# Altium footprint library PCB_control_unit.PcbLib: 25 footprints (part 1 of 2)
Each footprint in its own frame and in the unit in brackets; x right, y up, seen from the top. Pads: shape width x height; smd on the part's side, far side on the other; paste and mask are expansions set on the pad; w line width, h text height; cw(c..) or ccw(c..) is an arc to the next point about the centre after c.
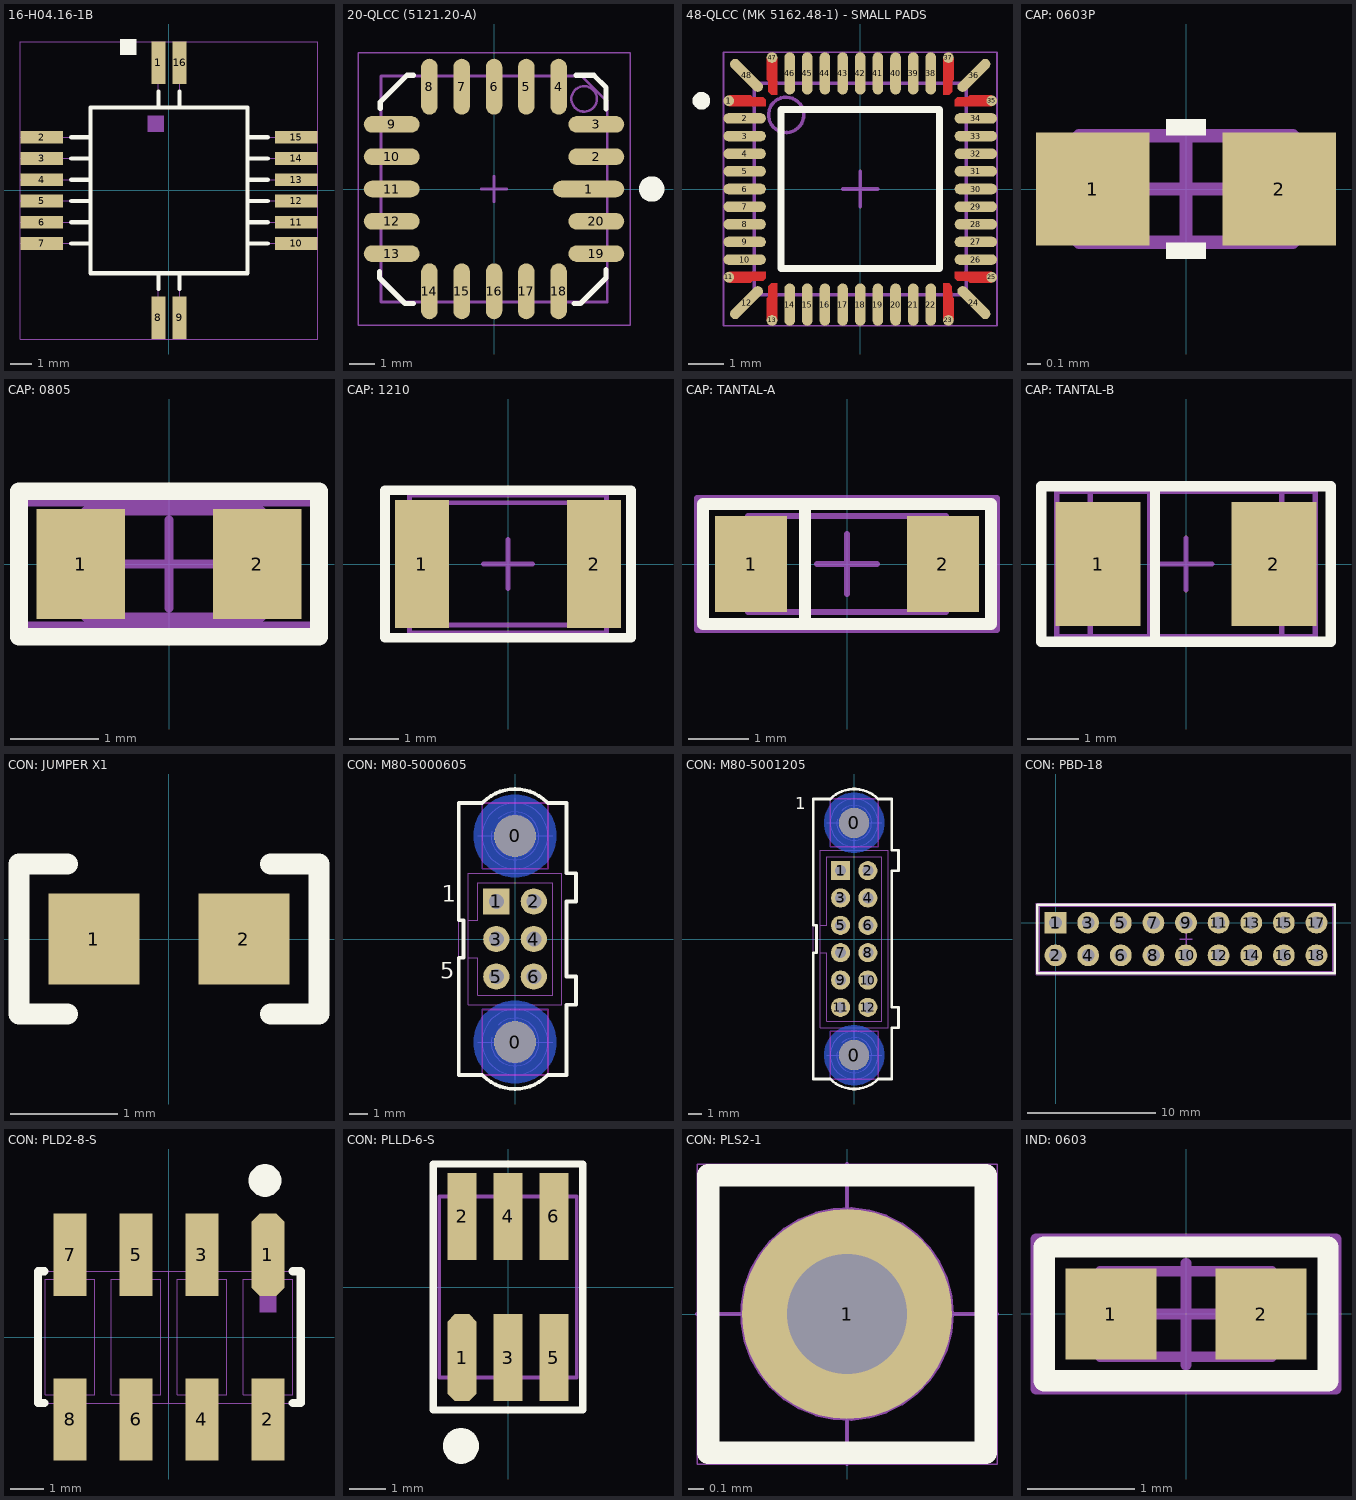
[diagram p0: the footprints below, top view; thin cyan lines are the x and y axes]

## 16-Н04.16-1B [mm] "USSR"
height 3
pads (16):
  rect 0.65x2 smd: 1(-0.5,6) 8(-0.5,-6) 9(0.5,-6) 16(0.5,6)
  rect 2x0.6 smd: 2(-6,2.5) 3(-6,1.5) 4(-6,0.5) 5(-6,-0.5) 6(-6,-1.5) 7(-6,-2.5) 10(6,-2.5) 11(6,-1.5) 12(6,-0.5) 13(6,0.5) 14(6,1.5) 15(6,2.5)
Top Overlay:
  region: -2.3,6.375 -1.55,6.375 -1.55,7.125 -2.3,7.125
  lines w0.2: -4.6,-2.5 -3.7,-2.5 ; -4.6,-1.5 -3.7,-1.5 ; -4.6,-0.5 -3.7,-0.5 ; -4.6,0.5 -3.7,0.5 ; -4.6,1.5 -3.7,1.5 ; -4.6,2.5 -3.7,2.5 ; -0.5,-4.65 -0.5,-3.9 ; -0.5,3.9 -0.5,4.65 ; 0.5,-4.65 0.5,-3.9 ; 0.5,3.9 0.5,4.65 ; 3.7,-2.5 4.65,-2.5 ; 3.7,-1.5 4.65,-1.5 ; 3.7,-0.5 4.65,-0.5 ; 3.7,0.5 4.65,0.5 ; 3.7,1.5 4.65,1.5 ; 3.7,2.5 4.65,2.5 ; -3.7,-3.9 3.7,-3.9 3.7,3.9 -3.7,3.9 -3.7,-3.9
Top Assy:
  region: -1,2.75 -0.25,2.75 -0.25,3.5 -1,3.5
  lines w0.025: -7,-2.5 -3.7,-2.5 ; -7,-1.5 -3.7,-1.5 ; -7,-0.5 -3.7,-0.5 ; -7,0.5 -3.7,0.5 ; -7,1.5 -3.7,1.5 ; -7,2.5 -3.7,2.5 ; -0.5,-7 -0.5,-3.9 ; -0.5,3.9 -0.5,7 ; 0.5,-7 0.5,-3.9 ; 0.5,3.9 0.5,7 ; 3.7,-2.5 7,-2.5 ; 3.7,-1.5 7,-1.5 ; 3.7,-0.5 7,-0.5 ; 3.7,0.5 7,0.5 ; 3.7,1.5 7,1.5 ; 3.7,2.5 7,2.5 ; -3.7,-3.9 3.7,-3.9 3.7,3.9 -3.7,3.9 -3.7,-3.9
Mechanical 15:
  lines w0.01: -7,-7 7,-7 7,7 -7,7 -7,-7
3D body "Н04.16-1В.STEP": height 2.92, standoff 0, extent -7.84,-8 7.84,8

## 20-QLCC (5121.20-A) [mm] "LCC, 20-Pins, Body 8,89x8,89mmx2,55mm, Pitch 1,27mm, IPC Medium Density"
height 2.55
pads (20):
  oval 2.8x0.65 smd: 1(3.725,0)
  oval 2.2x0.65 smd: 2(4.025,1.27) 3(4.025,2.54) 9(-4.025,2.54) 10(-4.025,1.27) 11(-4.025,0) 12(-4.025,-1.27) 13(-4.025,-2.54) 19(4.025,-2.54) 20(4.025,-1.27)
  oval 0.65x2.2 smd: 4(2.54,4.025) 5(1.27,4.025) 6(0,4.025) 7(-1.27,4.025) 8(-2.54,4.025) 14(-2.54,-4.025) 15(-1.27,-4.025) 16(0,-4.025) 17(1.27,-4.025) 18(2.54,-4.025)
Top Overlay:
  circle w0.5: c6.2,0 r0.25
  lines w0.2: -4.5,-3.25 -4.5,-3.5 -3.5,-4.5 -3.175,-4.5 ; -4.475,3.175 -4.475,3.425 -3.425,4.475 -3.175,4.475 ; 3.15,-4.5 3.4,-4.5 4.4,-3.5 4.4,-3.175 ; 3.225,4.475 3.925,4.475 4.4,4 4.4,3.15
Mechanical 13:
  circle w0.1: c3.545,3.545 r0.5
  lines w0.1: -4.445,-4.445 4.445,-4.445 4.445,3.445 3.445,4.445 -4.445,4.445 -4.445,-4.445
Mechanical 15:
  lines w0.05: -5.35,-5.35 -5.35,5.35 5.35,5.35 5.35,-5.35 -5.35,-5.35
  lines w0.1: -0.5,0 0.5,0 ; 0,-0.5 0,0.5
3D body "3_korpus_5121_20-a.stp": height 2.12, standoff 0, extent -4.445,-4.445 4.445,4.445

## 48-QLCC (МК 5162.48-1) - SMALL PADS [mm] "QFN-cl-h-48-0.5-002 Тихонов Е.Н., clearance 0.15"
pads (48):
  round 0.3 smd mask+0.05: 1(-3.725,2.5) 11(-3.725,-2.5) 13(-2.5,-3.725) 23(2.5,-3.725) 25(3.725,-2.5) 35(3.725,2.5) 37(2.5,3.725) 47(-2.5,3.725)
  oval 1.2x0.3 smd mask+0.05: 2(-3.275,2) 3(-3.275,1.5) 4(-3.275,1) 5(-3.275,0.5) 6(-3.275,0) 7(-3.275,-0.5) 8(-3.275,-1) 9(-3.275,-1.5) 10(-3.275,-2) 26(3.275,-2) 27(3.275,-1.5) 28(3.275,-1) 29(3.275,-0.5) 30(3.275,0) 31(3.275,0.5) 32(3.275,1) 33(3.275,1.5) 34(3.275,2)
  oval 0.3x1.2 smd rot 135 mask+0.05: 12(-3.22,-3.22) 36(3.22,3.22)
  oval 0.3x1.2 smd mask+0.05: 14(-2,-3.275) 15(-1.5,-3.275) 16(-1,-3.275) 17(-0.5,-3.275) 18(0,-3.275) 19(0.5,-3.275) 20(1,-3.275) 21(1.5,-3.275) 22(2,-3.275) 38(2,3.275) 39(1.5,3.275) 40(1,3.275) 41(0.5,3.275) 42(0,3.275) 43(-0.5,3.275) 44(-1,3.275) 45(-1.5,3.275) 46(-2,3.275)
  oval 0.3x1.2 smd rot 45 mask+0.05: 24(3.22,-3.22) 48(-3.22,3.22)
Top Layer:
  region: -2.675,-2.526 -2.675,-2.35 -3.725,-2.35 -3.725,-2.65 -3.1,-2.65 -3.05,-2.6 -2.75,-2.6
  region: -2.526,-2.675 -2.35,-2.675 -2.35,-3.725 -2.65,-3.725 -2.65,-3.1 -2.6,-3.05 -2.6,-2.75
  region: 2.675,-2.526 2.675,-2.35 3.725,-2.35 3.725,-2.65 3.1,-2.65 3.05,-2.6 2.75,-2.6
  region: 2.526,-2.675 2.35,-2.675 2.35,-3.725 2.65,-3.725 2.65,-3.1 2.6,-3.05 2.6,-2.75
  region: 2.526,2.675 2.35,2.675 2.35,3.725 2.65,3.725 2.65,3.1 2.6,3.05 2.6,2.75
  region: 2.675,2.526 2.675,2.35 3.725,2.35 3.725,2.65 3.1,2.65 3.05,2.6 2.75,2.6
  region: -2.675,2.526 -2.675,2.35 -3.725,2.35 -3.725,2.65 -3.1,2.65 -3.05,2.6 -2.75,2.6
  region: -2.526,2.675 -2.35,2.675 -2.35,3.725 -2.65,3.725 -2.65,3.1 -2.6,3.05 -2.6,2.75
Top Overlay:
  circle w0.25: c-4.5,2.5 r0.125
  lines w0.2: -2.25,-2.25 -2.25,2.25 2.25,2.25 2.25,-2.25 -2.25,-2.25
Mechanical 13:
  circle w0.1: c-2.1,2.1 r0.5
  lines w0.1: -3,-3 3,-3 3,3 -2.95,3 -3,2.95 -3,-3
Mechanical 15:
  lines w0.05: -3.875,-3.875 3.875,-3.875 3.875,3.875 -3.875,3.875 -3.875,-3.875
  lines w0.1: -0.5,0 0.5,0 ; 0,-0.5 0,0.5
3D body "5162.48-1 Корпус.stp": height 1.61, standoff -0.01, extent -3,-3 3,3

## CAP: 0603P [mm] "small var"
height 0.45
pads (2):
  rect 0.85x0.85 smd: 1(-0.7,0) 2(0.7,0)
Top Overlay:
  rectangle: -0.15,0.4 0.15,0.525
  rectangle: -0.15,-0.525 0.15,-0.4
Top Assy:
  lines w0.1: -0.8,-0.4 0.8,-0.4 0.8,0.4 -0.8,0.4 -0.8,-0.4
Mechanical 15:
  lines w0.1: -0.475,0 0.475,0 ; 0,-0.475 0,0.475
3D body "SW3dPS-0603 SMD Capacitor.STEP": height 0.3, standoff 0, extent -0.8,-0.4 0.8,0.4

## CAP: 0805 [mm]
height 0.45
pads (2):
  rect 1x1.25 smd: 1(-1,0) 2(1,0)
Top Overlay:
  lines w0.2: -1.7,-0.825 1.7,-0.825 1.7,0.825 -1.7,0.825 -1.7,-0.825
Top Assy:
  lines w0.1: -0.949,-0.6 1.05,-0.6 1.05,0.6 -0.949,0.6 -0.949,-0.6
Mechanical 15:
  lines w0.1: -0.5,0 0.5,0 ; 0,-0.5 0,0.5 ; -1.7,-0.7 -1.7,0.7 1.7,0.7 1.7,-0.7 -1.7,-0.7
3D body "SW3dPS-0805 SMD Capacitor.STEP": height 0.78, standoff 0, extent -1,-0.625 1,0.625

## CAP: 1210 [mm]
height 2.5
pads (2):
  rect 1.1x2.6 smd: 1(-1.75,0) 2(1.75,0)
Top Overlay:
  lines w0.2: -2.5,-1.5 -2.5,1.5 2.5,1.5 2.5,-1.5 -2.5,-1.5
Top Assy:
  lines w0.1: -2,-1.244 2,-1.244 2,1.245 -2,1.245 -2,-1.244
Mechanical 15:
  lines w0.1: -0.5,0 0.5,0 ; 0,-0.5 0,0.5 ; -2,-1.4 -2,1.4 2,1.4 2,-1.4 -2,-1.4
3D body "User Library-1210(3225M) Cap.STEP": height 1.7, standoff 0, extent -2,-1.244 2,1.245

## CAP: TANTAL-A [mm]
height 1.6
pads (2):
  rect 1.2x1.6 smd: 1(-1.6,0) 2(1.6,0)
Top Overlay:
  lines w0.2: -0.7,-1 -0.7,1 ; -2.4,-1 2.4,-1 2.4,1 -2.4,1 -2.4,-1
Top Assy:
  lines w0.1: -0.7,-0.8 -0.7,0.8 ; -1.651,-0.8 1.651,-0.8 1.651,0.8 -1.651,0.8 -1.651,-0.8
Mechanical 15:
  lines w0.1: -0.5,0 0.5,0 ; 0,-0.5 0,0.5 ; -2.5,-1.1 -2.5,1.1 2.5,1.1 2.5,-1.1 -2.5,-1.1
3D body "User Library-AVX_ACASE.STEP": height 1.71, standoff 0, extent -1.7,-0.84 1.7,0.84

## CAP: TANTAL-B [mm]
height 1.9
pads (2):
  rect 1.65x2.4 smd: 1(-1.7,0) 2(1.7,0)
Top Overlay:
  lines w0.2: -0.6,-1.5 -0.6,1.5 ; -2.8,-1.5 2.8,-1.5 2.8,1.5 -2.8,1.5 -2.8,-1.5
Top Assy:
  lines w0.1: -0.7,-1.465 -0.7,1.465 ; -1.85,-1.465 1.85,-1.465 1.85,1.465 -1.85,1.465 -1.85,-1.465
Mechanical 15:
  lines w0.1: -0.5,0 0.5,0 ; 0,-0.5 0,0.5 ; -2.5,-1.4 -2.5,1.4 2.5,1.4 2.5,-1.4 -2.5,-1.4
3D body "User Library-AVX_BCASE.STEP": height 2.03, standoff 0, extent -1.85,-1.465 1.85,1.465

## CON: JUMPER X1 [mm]
pads (2):
  rect 0.85x0.85 smd: 1(-0.7,0) 2(0.7,0)
Top Overlay:
  lines w0.2: -0.95,-0.7 -1.4,-0.7 -1.4,0.7 -0.95,0.7 ; 0.95,-0.7 1.4,-0.7 1.4,0.7 0.95,0.7

## CON: M80-5000605 [mm] "HR500"
height 5.6
pads (8):
  round 2.2 hole 2.2 unplated mask+0.2: 0(0,-5.5) 0(0,5.5)
  rect 1.4x1.4 hole 0.8: 1(-1,2)
  round 1.4 hole 0.8: 2(1,2) 3(-1,0) 4(1,0) 5(-1,-2) 6(1,-2)
Top Layer keep-out:
  lines w0.1: -1.75,-7.25 -1.75,-3.75 1.75,-3.75 1.75,-7.25 -1.75,-7.25 ; -1.75,3.75 -1.75,7.25 1.75,7.25 1.75,3.75 -1.75,3.75
Bottom Layer:
  pour cut-out: 2.2,-5.5 2.2,-5.283 2.115,-4.858 1.95,-4.458 1.709,-4.098 1.402,-3.791 1.042,-3.55 0.642,-3.385 0.217,-3.3 -0.217,-3.3 -0.642,-3.385 -1.042,-3.55 -1.402,-3.791 -1.709,-4.098 -1.95,-4.458 -2.115,-4.858 -2.2,-5.283 -2.2,-5.5 -2.2,-5.717 -2.115,-6.142 -1.95,-6.542 -1.709,-6.902 -1.402,-7.209 -1.042,-7.45 -0.642,-7.615 -0.217,-7.7 0.217,-7.7 0.642,-7.615 1.042,-7.45 1.402,-7.209 1.709,-6.902 1.95,-6.542 2.115,-6.142 2.2,-5.717
  pour cut-out: 2.2,5.5 2.2,5.717 2.115,6.142 1.95,6.542 1.709,6.902 1.402,7.209 1.042,7.45 0.642,7.615 0.217,7.7 -0.217,7.7 -0.642,7.615 -1.042,7.45 -1.402,7.209 -1.709,6.902 -1.95,6.542 -2.115,6.142 -2.2,5.717 -2.2,5.5 -2.2,5.283 -2.115,4.858 -1.95,4.458 -1.709,4.098 -1.402,3.791 -1.042,3.55 -0.642,3.385 -0.217,3.3 0.217,3.3 0.642,3.385 1.042,3.55 1.402,3.791 1.709,4.098 1.95,4.458 2.115,4.858 2.2,5.283
Top Overlay:
  lines w0.2: -3,-7.25 -3,-1 -2.75,-1 -2.75,1 -3,1 -3,7.25 -1.75,7.25 -1.707,7.293 cw(c0,5.586) 0,8 cw(c0,5.586) 1.707,7.293 1.75,7.25 2.75,7.25 2.75,3.5 3.25,3.5 3.25,2 2.75,2 2.75,-2 3.25,-2 3.25,-3.5 2.75,-3.5 2.75,-7.25 1.75,-7.25 1.707,-7.293 cw(c0,-5.586) 0,-8 cw(c0,-5.586) -1.707,-7.293 -1.75,-7.25 -3,-7.25
  text "5" at -4,-2.4 h1.5
  text "1" at -3.9,1.7 h1.5
Top Assy:
  circle w0.05: c-1,2 r0.25
  circle w0.05: c1,2 r0.25
  circle w0.05: c1,0 r0.25
  circle w0.05: c1,-2 r0.25
  circle w0.05: c-1,-2 r0.25
  circle w0.05: c-1,0 r0.25
  circle w0.05: c0,-5.5 r1.1
  circle w0.05: c0,5.5 r1.1
  circle w0.05: c0,-5.5 r1.75
  circle w0.05: c0,5.5 r1.75
  lines w0.05: -2.5,-1 -2,-1 -2,-3 2,-3 2,3 -2,3 -2,1 -2.5,1 ; -2,-5.5 2,-5.5 ; -2,5.5 2,5.5 ; -1.25,-5.248 ccw(c0,-5.5) -0.901,-4.599 ; -1.25,5.752 ccw(c0,5.5) -0.901,6.401 ; 0,-7.5 0,-3.65 ; 0,3.6 0,7.5 ; -3,-7.25 -1.75,-7.25 ccw(c0,-5.5) 1.75,-7.25 2.75,-7.25 2.75,-3.5 3.25,-3.5 3.25,-2 2.75,-2 2.75,2 3.25,2 3.25,3.5 2.75,3.5 2.75,7.25 1.75,7.25 ccw(c0,5.5) -1.75,7.25 -3,7.25 -3,-7.25 ; -2.5,-3.5 -2.5,3.5 2.5,3.5 2.5,-3.5 -2.5,-3.5
3D body "Вилка M80-5000642.stp": height 5.6, standoff -3.25, extent -2.775,-8 3.275,8

## CON: M80-5001205 [mm] "без винтов"
height 5.6
pads (14):
  round 2.2 hole 2.2 unplated mask+0.2: 0(0,-8.5) 0(0,8.5)
  rect 1.4x1.4 hole 0.8: 1(-1,5)
  round 1.4 hole 0.8: 2(1,5) 3(-1,3) 4(1,3) 5(-1,1) 6(1,1) 7(-1,-1) 8(1,-1) 9(-1,-3) 10(1,-3) 11(-1,-5) 12(1,-5)
Top Layer keep-out:
  lines w0.1: -1.75,-10.25 -1.75,-6.75 1.75,-6.75 1.75,-10.25 -1.75,-10.25 ; -1.75,6.75 -1.75,10.25 1.75,10.25 1.75,6.75 -1.75,6.75
Bottom Layer:
  pour cut-out: 2.2,-8.5 2.2,-8.283 2.115,-7.858 1.95,-7.458 1.709,-7.098 1.402,-6.791 1.042,-6.55 0.642,-6.385 0.217,-6.3 -0.217,-6.3 -0.642,-6.385 -1.042,-6.55 -1.402,-6.791 -1.709,-7.098 -1.95,-7.458 -2.115,-7.858 -2.2,-8.283 -2.2,-8.5 -2.2,-8.717 -2.115,-9.142 -1.95,-9.542 -1.709,-9.902 -1.402,-10.209 -1.042,-10.45 -0.642,-10.615 -0.217,-10.7 0.217,-10.7 0.642,-10.615 1.042,-10.45 1.402,-10.209 1.709,-9.902 1.95,-9.542 2.115,-9.142 2.2,-8.717
  pour cut-out: 2.2,8.5 2.2,8.717 2.115,9.142 1.95,9.542 1.709,9.902 1.402,10.209 1.042,10.45 0.642,10.615 0.217,10.7 -0.217,10.7 -0.642,10.615 -1.042,10.45 -1.402,10.209 -1.709,9.902 -1.95,9.542 -2.115,9.142 -2.2,8.717 -2.2,8.5 -2.2,8.283 -2.115,7.858 -1.95,7.458 -1.709,7.098 -1.402,6.791 -1.042,6.55 -0.642,6.385 -0.217,6.3 0.217,6.3 0.642,6.385 1.042,6.55 1.402,6.791 1.709,7.098 1.95,7.458 2.115,7.858 2.2,8.283
Top Overlay:
  lines w0.2: 2.75,10.25 1.75,10.25 ccw(c0,8.5) -1.75,10.25 -3,10.25 -3,1 -2.75,1 -2.75,-1 -3,-1 -3,-10.25 -1.75,-10.25 ccw(c0,-8.5) 1.75,-10.25 2.75,-10.25 2.75,-6.5 3.25,-6.5 3.25,-5 2.75,-5 2.75,5 3.25,5 3.25,6.5 2.75,6.5 2.75,10.25 ; 2.75,10.25 2.75,10.25
  text "1" at -4.3,9.2 h1.5
Top Assy:
  circle w0.05: c0,8.5 r1.75
  circle w0.05: c0,-8.5 r1.75
  circle w0.05: c0,8.5 r1
  circle w0.05: c0,-8.5 r1
  circle w0.05: c-1,3 r0.25
  circle w0.05: c-1,1 r0.25
  circle w0.05: c-1,-1 r0.25
  circle w0.05: c-1,-3 r0.25
  circle w0.05: c-1,-5 r0.25
  circle w0.05: c1,-5 r0.25
  circle w0.05: c1,-3 r0.25
  circle w0.05: c1,-1 r0.25
  circle w0.05: c1,1 r0.25
  circle w0.05: c1,3 r0.25
  circle w0.05: c1,5 r0.25
  circle w0.05: c-1,5 r0.25
  lines w0.05: -2.5,-1 -2,-1 -2,-6 2,-6 2,6 -2,6 -2,1 -2.5,1 ; -2,-8.5 2,-8.5 ; -2,8.5 2,8.5 ; -1.25,-8.248 ccw(c0,-8.5) -0.901,-7.599 ; -1.25,8.752 ccw(c0,8.5) -0.901,9.401 ; 0,-10.5 0,-6.65 ; 0,6.6 0,10.5 ; -3,-10.25 -3,10.25 -1.75,10.25 cw(c0,8.5) 1.75,10.25 2.75,10.25 2.75,6.5 3.25,6.5 3.25,5 2.75,5 2.75,-5 3.25,-5 3.25,-6.5 2.75,-6.5 2.75,-10.25 1.75,-10.25 cw(c0,-8.5) -1.75,-10.25 -3,-10.25 ; -2.5,-6.5 2.5,-6.5 2.5,6.5 -2.5,6.5 -2.5,-6.5
3D body "Вилка M80-5001242.stp": height 5.6, standoff -3.25, extent -2.775,-11 3.275,11

## CON: PBD-18 [mm] "PBD-18"
height 10
pads (18):
  rect 1.7x1.7 hole 1: 1(0,0)
  round 1.7 hole 1: 2(0,-2.54) 3(2.54,0) 4(2.54,-2.54) 5(5.08,0) 6(5.08,-2.54) 7(7.62,0) 8(7.62,-2.54) 9(10.16,0) 10(10.16,-2.54) 11(12.7,0) 12(12.7,-2.54) 13(15.24,0) 14(15.24,-2.54) 15(17.78,0) 16(17.78,-2.54) 17(20.32,0) 18(20.32,-2.54)
Top Overlay:
  lines w0.2: -1.415,-3.945 21.735,-3.945 21.735,1.405 -1.415,1.405 -1.415,-3.945
Top Assy:
  lines w0.1: -1.27,-3.81 21.59,-3.81 21.59,1.27 -1.27,1.27 -1.27,-3.81
Mechanical 15:
  lines w0.05: -1.524,-4.064 -1.524,1.524 21.844,1.524 21.844,-4.064 -1.524,-4.064
  lines w0.1: 9.66,-1.27 10.66,-1.27 ; 10.16,-1.77 10.16,-0.77
3D body "PBD-18.STEP": height 8.5, standoff -3, extent -1.27,-3.81 21.59,1.27

## CON: PLD2-8-S [mm] "двухрядные штыри, шаг 2мм; SMD"
height 10
pads (9):
  oct 1x2.5 smd mask+0.1: 1(3,2.5)
  rect 1x2.5 smd mask+0.1: 2(3,-2.5) 3(1,2.5) 4(1,-2.5)
  rect 1x2.5 smd: 5(-1,2.5) 6(-1,-2.5) 7(-3,2.5) 8(-3,-2.5)
  round 1 on Top Overlay: ""(2.911,4.75)
Top Overlay:
  lines w0.254: -3.775,-2 -3.975,-2 -3.975,2 -3.775,2 ; 3.75,-2 4,-2 4,2 3.75,2
Top Solder:
  region: 1.6,-1.15 0.4,-1.15 0.4,-3.85 1.6,-3.85
  region: 1.6,3.85 0.4,3.85 0.4,1.15 1.6,1.15
  region: 3.6,-1.15 2.4,-1.15 2.4,-3.85 3.6,-3.85
  region: 3.6,3.85 2.4,3.85 2.4,1.15 3.6,1.15
Top Assy:
  region: 3.25,1.5 2.75,1.5 2.75,0.75 3.25,0.75
  lines w0.01: -4,-2 0,-2 0,2 -4,2 ; -4,-2 -4,2 ; -4,-2 4,-2 4,2 -4,2 ; -4,-2 -4,2 ; -3.75,-1.75 -2.25,-1.75 -2.25,1.75 -3.75,1.75 -3.75,-1.75 ; -1.75,-1.75 -0.25,-1.75 -0.25,1.75 -1.75,1.75 -1.75,-1.75 ; 0.25,-1.75 1.75,-1.75 1.75,1.75 0.25,1.75 0.25,-1.75 ; 2.25,-1.75 3.75,-1.75 3.75,1.75 2.25,1.75 2.25,-1.75
  lines w0.025: -3.25,-2 -3.25,-3.25 -2.75,-3.25 -2.75,-2 ; -3.25,2 -3.25,3.25 -2.75,3.25 -2.75,2 ; -1.25,-2 -1.25,-3.25 -0.75,-3.25 -0.75,-2 ; -1.25,2 -1.25,3.25 -0.75,3.25 -0.75,2 ; 0.75,-2 0.75,-3.25 1.25,-3.25 1.25,-2 ; 0.75,2 0.75,3.25 1.25,3.25 1.25,2 ; 2.75,-2 2.75,-3.25 3.25,-3.25 3.25,-2 ; 2.75,2 2.75,3.25 3.25,3.25 3.25,2
3D body "PinHeader_2x04_P2.00mm_Vertical_SMD.step": height 6, standoff 0, extent -4,-3.1 4,3.1

## CON: PLLD-6-S [mm] "smd 6 pin"
height 4.5
pads (8):
  oct 0.8x2.4 smd: 1(-1.27,-1.95)
  rect 0.8x2.4 smd: 2(-1.27,1.95) 3(0,-1.95) 4(0,1.95) 5(1.27,-1.95) 6(1.27,1.95)
  round 1 on Top Overlay: ""(-1.3,-4.392)
  round 0.5 on Mech1: ""(-1.3,-4.292)
Top Overlay:
  lines w0.2: -2.065,-3.4 2.065,-3.4 2.065,3.4 -2.065,3.4 -2.065,-3.4
Top Assy:
  lines w0.1: -1.905,-2.5 1.905,-2.5 1.905,2.5 -1.905,2.5 -1.905,-2.5
Mechanical 15:
  lines w0.1: -2.065,-3.4 -2.065,3.4 2.065,3.4 2.065,-3.4 -2.065,-3.4
3D body "PinHeader_2x03_P1.27mm_Vertical_SMD.step": height 4.4, standoff 0, extent -1.905,-2.772 1.905,2.798

## CON: PLS2-1 [mm] "1 Position,pitch 2mm"
pads (1):
  round 1.4 hole 0.8: 1(0,0)
Top Overlay:
  lines w0.15: -0.925,-0.925 -0.925,0.925 0.925,0.925 0.925,-0.925 -0.925,-0.925
Top Assy:
  circle w0.025: c0,0 r0.7
  lines w0.01: -1,-1 -1,1 1,1 1,-1 -1,-1
  lines w0.025: -1,0 1,0 ; 0,-1 0,1
3D body "PinHeader_1x01_P2.00mm_Vertical.step": height 6, standoff -2.8, extent -1,-1 1,1

## IND: 0603 [mm]
height 0.8
pads (2):
  rect 0.85x0.85 smd: 1(-0.7,0) 2(0.7,0)
Top Overlay:
  lines w0.2: -1.325,-0.625 1.325,-0.625 1.325,0.625 -1.325,0.625 -1.325,-0.625
Top Assy:
  lines w0.1: -0.8,-0.4 0.8,-0.4 0.8,0.4 -0.8,0.4 -0.8,-0.4
Mechanical 15:
  lines w0.1: -0.475,0 0.475,0 ; 0,-0.475 0,0.475 ; -1.4,-0.7 -1.4,0.7 1.4,0.7 1.4,-0.7 -1.4,-0.7
3D body "Chip2PinSM127P600-8N.step": height 0.8, standoff 0, extent -0.8,-0.4 0.8,0.4